# EAGLE library part MAX1771 (library mimi)
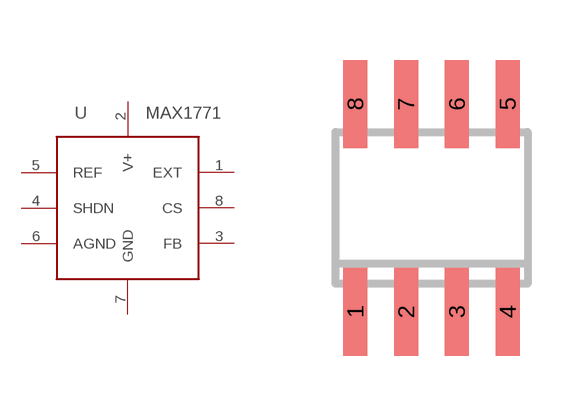
[diagram p0: symbol with the pads of SO08; footprint SO08]

Designator prefix U

## MAX1771ESA  [SO08]
1  EXT
2  V+
3  FB
4  SHDN
5  REF
6  AGND
7  GND
8  CS

## Footprint SO08 (pad centres in mm)
SMALL OUTLINE INTEGRATED CIRCUIT body 3.9 mm/JEDEC MS-012AA
smd 0.6 x 2.2: 1 -1.905,-2.6; 2 -0.635,-2.6; 3 0.635,-2.6; 4 1.905,-2.6; 5 1.905,2.6; 6 0.635,2.6; 7 -0.635,2.6; 8 -1.905,2.6